# EAGLE library part TS-110-G-A (library SAMTEC-Txx_By_element14_Batch_1)
CONN HEADER, 2.54MM, THT VERT, 10WAY
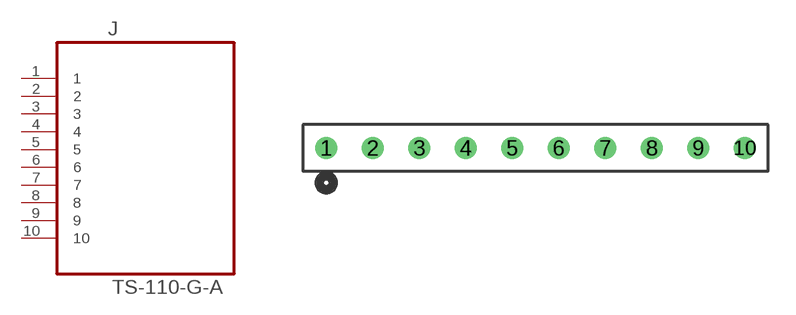
[diagram p398: symbol with the pads of SAMTEC_TS-110-G-A; footprint SAMTEC_TS-110-G-A]

Designator prefix J

## TS-110-G-A (MPN: TS-110-G-A; OC_FARNELL: 1668583; OC_NEWARK: 12P1128; PACKAGE: HEADER, 2.54MM, THT VERT,10WAY; SUPPLIER: SAMTEC)  [SAMTEC_TS-110-G-A]
1  1  pas
2  2  pas
3  3  pas
4  4  pas
5  5  pas
6  6  pas
7  7  pas
8  8  pas
9  9  pas
10  10  pas

## Footprint SAMTEC_TS-110-G-A (pad centres in mm)
drill 0.711: 1 0,0; 2 2.54,0; 3 5.08,0; 4 7.62,0; 5 10.16,0; 6 12.7,0; 7 15.24,0; 8 17.78,0; 9 20.32,0; 10 22.86,0